# EAGLE library part 16F877 (library ic)
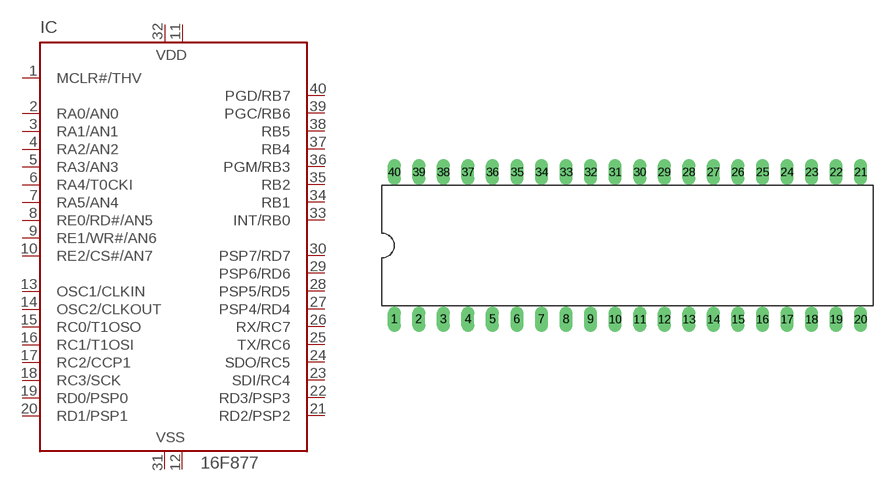
[diagram p2: symbol with the pads of 40PIN; footprint 40PIN]

Designator prefix IC

## 16F877  [40PIN]
1  MCLR#/THV  in
2  RA0/AN0
3  RA1/AN1
4  RA2/AN2
5  RA3/AN3
6  RA4/T0CKI
7  RA5/AN4
8  RE0/RD#/AN5
9  RE1/WR#/AN6
10  RE2/CS#/AN7
11  VDD  pwr
12  VSS  pwr
13  OSC1/CLKIN  in
14  OSC2/CLKOUT  out
15  RC0/T1OSO
16  RC1/T1OSI
17  RC2/CCP1
18  RC3/SCK
19  RD0/PSP0
20  RD1/PSP1
21  RD2/PSP2
22  RD3/PSP3
23  SDI/RC4
24  SDO/RC5
25  TX/RC6
26  RX/RC7
27  PSP4/RD4
28  PSP5/RD5
29  PSP6/RD6
30  PSP7/RD7
31  VSS  pwr
32  VDD  pwr
33  INT/RB0
34  RB1
35  RB2
36  PGM/RB3
37  RB4
38  RB5
39  PGC/RB6
40  PGD/RB7

## Footprint 40PIN (pad centres in mm)
drill 0.813 long: 1 -24.13,-7.62; 2 -21.59,-7.62; 3 -19.05,-7.62; 4 -16.51,-7.62; 5 -13.97,-7.62; 6 -11.43,-7.62; 7 -8.89,-7.62; 8 -6.35,-7.62; 9 -3.81,-7.62; 10 -1.27,-7.62; 11 1.27,-7.62; 12 3.81,-7.62; 13 6.35,-7.62; 14 8.89,-7.62; 15 11.43,-7.62; 16 13.97,-7.62; 17 16.51,-7.62; 18 19.05,-7.62; 19 21.59,-7.62; 20 24.13,-7.62; 21 24.13,7.62; 22 21.59,7.62; 23 19.05,7.62; 24 16.51,7.62; 25 13.97,7.62; 26 11.43,7.62; 27 8.89,7.62; 28 6.35,7.62; 29 3.81,7.62; 30 1.27,7.62; 31 -1.27,7.62; 32 -3.81,7.62; 33 -6.35,7.62; 34 -8.89,7.62; 35 -11.43,7.62; 36 -13.97,7.62; 37 -16.51,7.62; 38 -19.05,7.62; 39 -21.59,7.62; 40 -24.13,7.62